# EAGLE library part TLP206A (library shield)
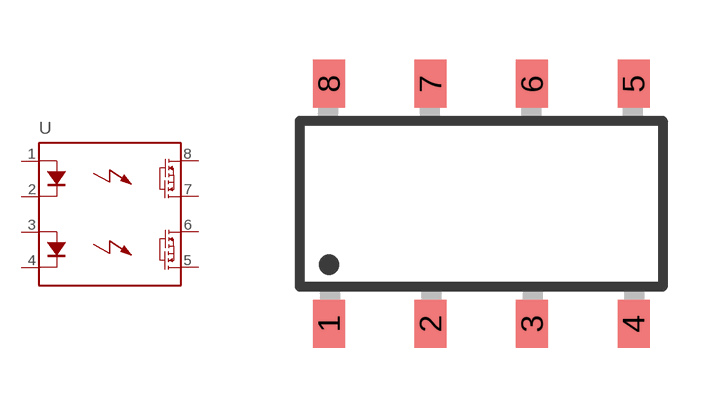
[diagram p0: symbol with the pads of SOP08; footprint SOP08]

Designator prefix -

## TLP206A  [SOP08]
1  LED(+)_1
2  LED(-)_1
3  LED(+)_2
4  LED(-)_2
5  RELAY2_1
6  RELAY2_2
7  RELAY1_1
8  RELAY1_2

## Footprint SOP08 (pad centres in mm)
SOP 08
smd 0.8 x 1.2: 1 -3.81,-3; 2 -1.27,-3; 3 1.27,-3; 4 3.81,-3; 5 3.81,3; 6 1.27,3; 7 -1.27,3; 8 -3.81,3